# Altium schematic symbol library LCD-S2X1C50TR.Schlib: 1 symbol
Pins are listed as number, name and electrical type; pins without a type are passive.

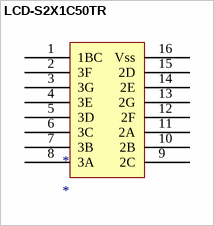
[diagram p0: symbol LCD-S2X1C50TR]

## LCD-S2X1C50TR
designator *
pins: 1 1BC, 2 3F, 3 3G, 4 3E, 5 3D, 6 3C, 7 3B, 8 3A, 9 2C, 10 2B, 11 2A, 12 2F, 13 2G, 14 2E, 15 2D, 16 Vss